# Altium integrated library XH Connector.IntLib: 6 symbols
Pins are listed as number, name and electrical type; pins without a type are passive.

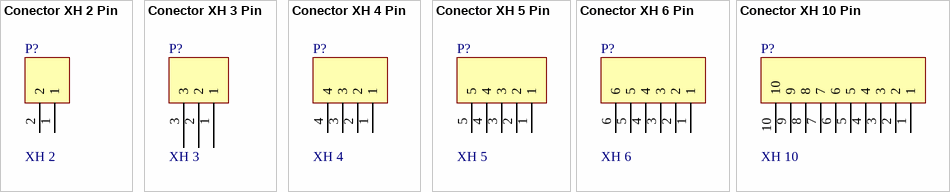
[diagram p0: symbols Conector XH 2 Pin to Conector XH 10 Pin]

## Conector XH 2 Pin
designator P?, comment XH 2
Conector XH 2 Pin; DatasheetVersion: 2022
footprint XH 2 PIN ( Black )
footprint XH 2 PIN ( Green )
footprint XH 2 PIN ( Red )
footprint XH 2 PIN ( White )
footprint XH 2 PIN ( Red ) Right
pins: 1, 2

## Conector XH 3 Pin
designator P?, comment XH 3
Conector XH 3 Pin; DatasheetVersion: 2022
footprint XH 3 PIN
pins: 1, 2, 3

## Conector XH 4 Pin
designator P?, comment XH 4
Conector XH 4 Pin; DatasheetVersion: 2022
footprint XH 4 PIN
footprint XH 4 PIN ( Blue ) Right
pins: 1, 2, 3, 4

## Conector XH 5 Pin
designator P?, comment XH 5
Conector XH 5 Pin; DatasheetVersion: 2022
footprint XH 5 PIN
footprint XH 5 PIN ( Blue ) Right
pins: 1, 2, 3, 4, 5

## Conector XH 6 Pin
designator P?, comment XH 6
Conector XH 6 Pin; DatasheetVersion: 2022
footprint XH 6 PIN
pins: 1, 2, 3, 4, 5, 6

## Conector XH 10 Pin
designator P?, comment XH 10
Conector XH 10 Pin; DatasheetVersion: 2022
footprint XH 10 PIN
pins: 1, 2, 3, 4, 5, 6, 7, 8, 9, 10